# Altium footprint library PCB1.PcbLib: 34 footprints (part 3 of 3)
Each footprint in its own frame and in the unit in brackets; x right, y up, seen from the top. Pads: shape width x height; smd on the part's side, far side on the other; paste and mask are expansions set on the pad; w line width, h text height; cw(c..) or ccw(c..) is an arc to the next point about the centre after c.
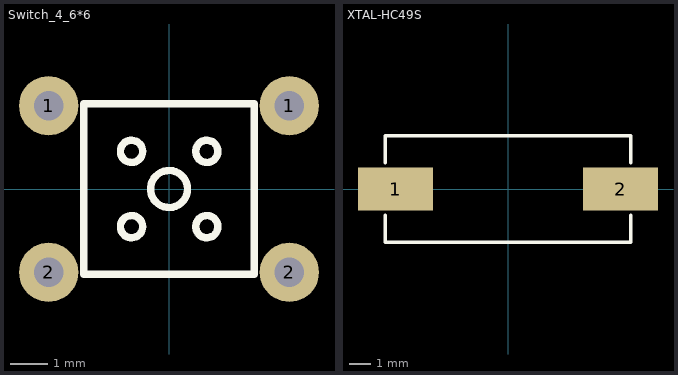
[diagram p2: the footprints below, top view; thin cyan lines are the x and y axes]

## Switch_4_6*6 [mm]
pads (4):
  round 1.6 hole 0.8: 1(-3.25,2.25) 1(3.25,2.25) 2(-3.25,-2.25) 2(3.25,-2.25)
Top Overlay:
  circle w0.2: c0,0 r0.5
  circle w0.2: c-1.011,1.016 r0.3
  circle w0.2: c1.021,1.016 r0.3
  circle w0.2: c-1.011,-1.016 r0.3
  circle w0.2: c1.021,-1.016 r0.3
  lines w0.2: -2.3,-2.3 -2.3,2.3 2.3,2.3 2.3,-2.3 -2.3,-2.3
3D body "User Library-TPxxxx (Switch).step.crdownload": height 4.9, standoff -3.59, extent -3.989,-3.003 3.989,2.997

## XTAL-HC49S [mil]
pads (2):
  rect 138x79 smd: 1(-207,0) 2(207,0)
Top Overlay:
  lines w5.91: -226,-48 -226,-98 226,-98 226,-48 ; -226,48 -226,98 226,98 226,48
3D body "RU5608001.stp": height 158.08, standoff 0.6, extent -253.93,-98.42 253.94,98.43